# EAGLE library part GE866 (library telit-modules (2))
Telit GE866-QUAD
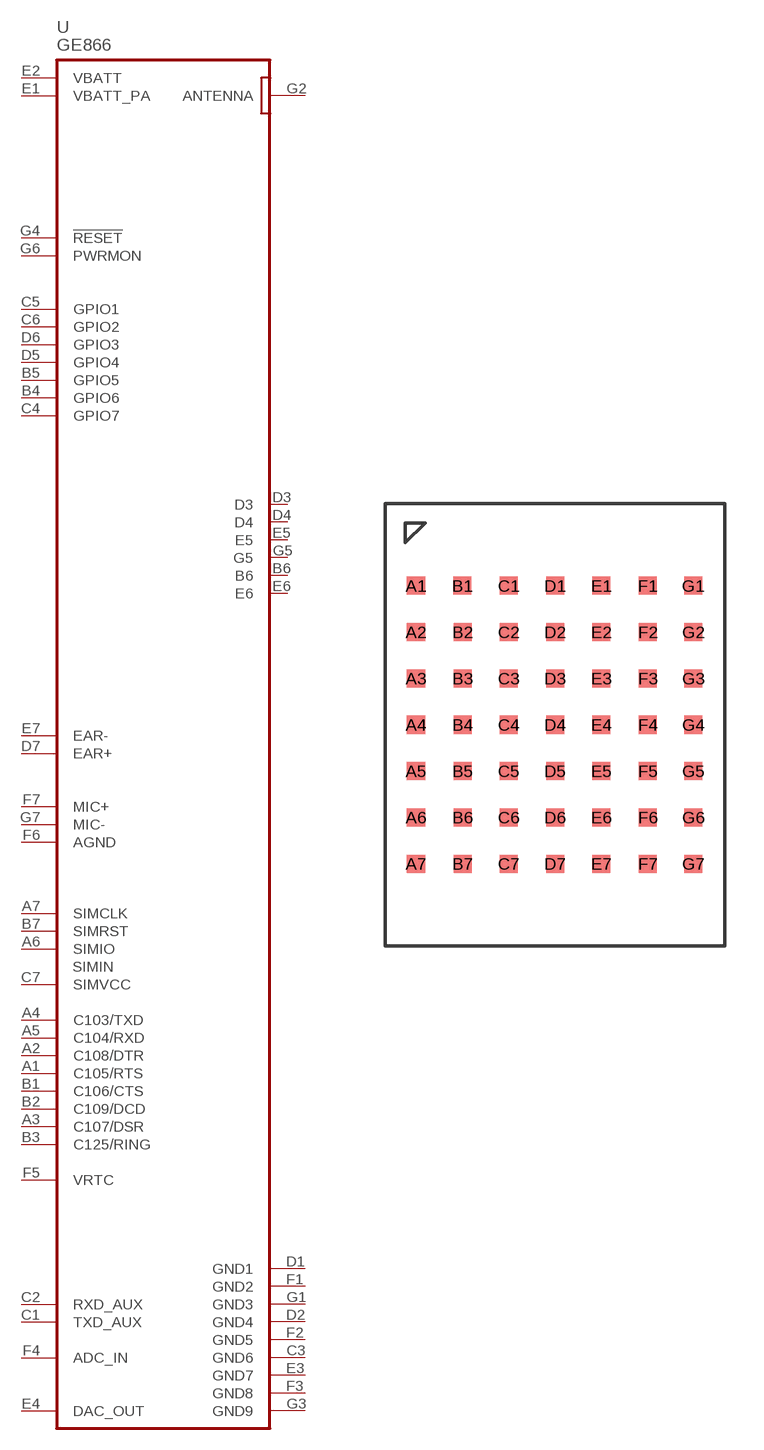
[diagram p10: symbol with the pads of GE866; footprint GE866]

Designator prefix -

## GE866  [GE866]
A1  C105/RTS  in
A2  C108/DTR  in
A3  C107/DSR  out
A4  C103/TXD  in
A5  C104/RXD  out
A6  SIMIO
A7  SIMCLK  out
B1  C106/CTS  out
B2  C109/DCD  out
B3  C125/RING  out
B4  GPIO6
B5  GPIO5
B6  B6  pas
B7  SIMRST  out
C1  TXD_AUX  pas
C2  RXD_AUX  pas
C3  GND6  pwr
C4  GPIO7
C5  GPIO1
C6  GPIO2
C7  SIMVCC  pas
D1  GND1  pwr
D2  GND4  pwr
D3  D3  pas
D4  D4  pas
D5  GPIO4
D6  GPIO3
D7  EAR+  pas
E1  VBATT_PA  pwr
E2  VBATT  pwr
E3  GND7  pwr
E4  DAC_OUT  out
E5  E5  pas
E6  E6  pas
E7  EAR-  pas
F1  GND2  pwr
F2  GND5  pwr
F3  GND8  pwr
F4  ADC_IN  in
F5  VRTC  pas
F6  AGND  pwr
F7  MIC+  pas
G1  GND3  pwr
G2  ANTENNA  in
G3  GND9  pwr
G4  !RESET  in
G5  G5  pas
G6  PWRMON
G7  MIC-  pas

## Footprint GE866 (pad centres in mm)
smd 0.7 x 0.7: A1 -5.4,5.4; A2 -5.4,3.6; A3 -5.4,1.8; A4 -5.4,0; A5 -5.4,-1.8; A6 -5.4,-3.6; A7 -5.4,-5.4; B1 -3.6,5.4; B2 -3.59,3.6; B3 -3.59,1.8; B4 -3.59,0; B5 -3.59,-1.8; B6 -3.59,-3.6; B7 -3.59,-5.4; C1 -1.8,5.4; C2 -1.8,3.6; C3 -1.8,1.8; C4 -1.8,0; C5 -1.8,-1.8; C6 -1.8,-3.6; C7 -1.8,-5.4; D1 0,5.4; D2 0,3.6; D3 0,1.8; D4 0,0; D5 0,-1.8; D6 0,-3.6; D7 0,-5.4; E1 1.8,5.4; E2 1.8,3.6; E3 1.8,1.8; E4 1.8,0; E5 1.8,-1.8; E6 1.8,-3.6; E7 1.8,-5.4; F1 3.6,5.4; F2 3.61,3.6; F3 3.61,1.8; F4 3.61,0; F5 3.61,-1.8; F6 3.61,-3.6; F7 3.61,-5.4; G1 5.365,5.4; G2 5.375,3.6; G3 5.375,1.8; G4 5.375,0; G5 5.375,-1.8; G6 5.375,-3.6; G7 5.375,-5.4